# Altium schematic symbol library SI_tmp.SchLib: 2 symbols
Pins are listed as number, name and electrical type; pins without a type are passive.

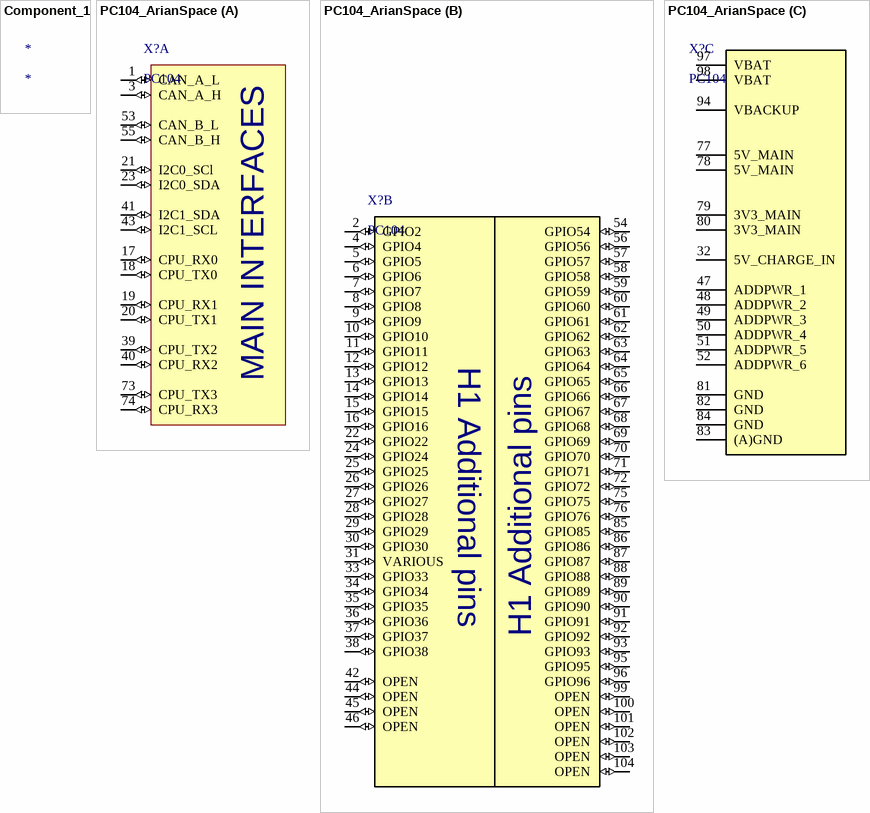
[diagram p0: symbols Component_1 to PC104_ArianSpace]

## Component_1
designator *

## PC104_ArianSpace
designator X?, comment PC104
PC104 connector
footprint PC104_ArianSpace
part A pins: 1 CAN_A_L (io), 3 CAN_A_H (io), 17 CPU_RX0 (io), 18 CPU_TX0 (io), 19 CPU_RX1 (io), 20 CPU_TX1 (io), 21 I2C0_SCl (io), 23 I2C0_SDA (io), 39 CPU_TX2 (io), 40 CPU_RX2 (io), 41 I2C1_SDA (io), 43 I2C1_SCL (io), 53 CAN_B_L (io), 55 CAN_B_H (io), 73 CPU_TX3 (io), 74 CPU_RX3 (io)
part B pins: 2 GPIO2 (io), 4 GPIO4 (io), 5 GPIO5 (io), 6 GPIO6 (io), 7 GPIO7 (io), 8 GPIO8 (io), 9 GPIO9 (io), 10 GPIO10 (io), 11 GPIO11 (io), 12 GPIO12 (io), 13 GPIO13 (io), 14 GPIO14 (io), 15 GPIO15 (io), 16 GPIO16 (io), 22 GPIO22 (io), 24 GPIO24 (io), 25 GPIO25 (io), 26 GPIO26 (io), 27 GPIO27 (io), 28 GPIO28 (io), 29 GPIO29 (io), 30 GPIO30 (io), 31 VARIOUS (io), 33 GPIO33 (io), 34 GPIO34 (io), 35 GPIO35 (io), 36 GPIO36 (io), 37 GPIO37 (io), 38 GPIO38 (io), 42 OPEN (io), 44 OPEN (io), 45 OPEN (io), 46 OPEN (io), 54 GPIO54 (io), 56 GPIO56 (io), 57 GPIO57 (io), 58 GPIO58 (io), 59 GPIO59 (io), 60 GPIO60 (io), 61 GPIO61 (io), 62 GPIO62 (io), 63 GPIO63 (io), 64 GPIO64 (io), 65 GPIO65 (io), 66 GPIO66 (io), 67 GPIO67 (io), 68 GPIO68 (io), 69 GPIO69 (io), 70 GPIO70 (io), 71 GPIO71 (io), 72 GPIO72 (io), 75 GPIO75 (io), 76 GPIO76 (io), 85 GPIO85 (io), 86 GPIO86 (io), 87 GPIO87 (io), 88 GPIO88 (io), 89 GPIO89 (io), 90 GPIO90 (io), 91 GPIO91 (io), 92 GPIO92 (io), 93 GPIO93 (io), 95 GPIO95 (io), 96 GPIO96 (io), 99 OPEN (io), 100 OPEN (io), 101 OPEN (io), 102 OPEN (io), 103 OPEN (io), 104 OPEN (io)
part C pins: 32 5V_CHARGE_IN (power), 47 ADDPWR_1 (power), 48 ADDPWR_2 (power), 49 ADDPWR_3 (power), 50 ADDPWR_4 (power), 51 ADDPWR_5 (power), 52 ADDPWR_6 (power), 77 5V_MAIN (power), 78 5V_MAIN (power), 79 3V3_MAIN (power), 80 3V3_MAIN (power), 81 GND (power), 82 GND (power), 83 (A)GND (power), 84 GND (power), 94 VBACKUP (power), 97 VBAT (power), 98 VBAT (power)
part A text: MAIN INTERFACES
part B text: H1 Additional pins